# Altium footprint library US5881LSE-AAA-000-RE.PcbLib: 1 footprints
Each footprint in its own frame and in the unit in brackets; x right, y up, seen from the top. Pads: shape width x height; smd on the part's side, far side on the other; paste and mask are expansions set on the pad; w line width, h text height; cw(c..) or ccw(c..) is an arc to the next point about the centre after c.
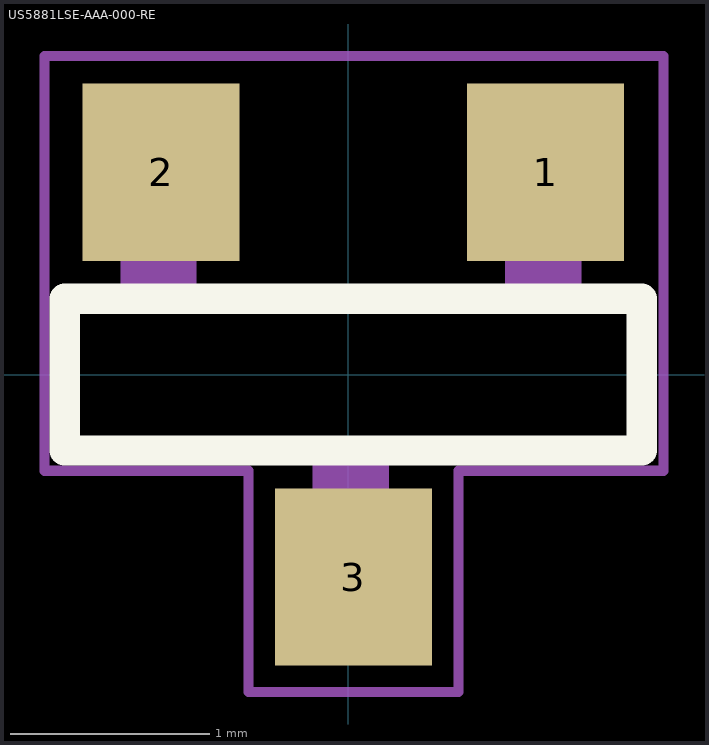
[diagram p0: the footprint, top view; thin cyan lines are the x and y axes]

## US5881LSE-AAA-000-RE [mil]
pads (3):
  rect 31x35 smd: 1(39,40) 2(-37,40) 3(1,-40)
Top Overlay:
  lines w6: -56,-15 -56,15 58,15 58,-15 -56,-15
Mechanical 4:
  region: -7,-17 8,-17 8,-37 -7,-37
  region: -45,37 -30,37 -30,17 -45,17
  region: 31,37 46,37 46,17 31,17
  region: -7,-17 8,-17 8,-37 -7,-37
  region: -45,37 -30,37 -30,17 -45,17
  region: 31,37 46,37 46,17 31,17
Mechanical 16:
  lines w2: -60,-19 -60,63 62.25,63 62.25,-19 21.75,-19 21.75,-62.75 -19.75,-62.75 -19.75,-19 -60,-19